# Altium schematic symbol library 1N5819-E3_54.SchLib: 1 symbol
Pins are listed as number, name and electrical type; pins without a type are passive.

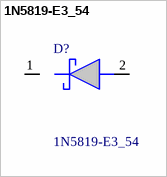
[diagram p0: symbol 1N5819-E3_54]

## 1N5819-E3_54
designator D?
Vishay 1N5819-E3/54 Schottky Diode, 40V 1A, 2-Pin DO-204AL; Mouser Part Number: 625-1N5819-E3; Mouser Price/Stock: https://www.mouser.co.uk/ProductDetail/Vishay-General-Semiconductor/1N5819-E3-54?qs=7w0fSgRKp93guDuu%252B5hJ0Q%3D%3D; Manufacturer_Name: Vishay; Manufacturer_Part_Number: 1N5819-E3/54; Datasheet Link: https://www.vishay.com/docs/88525/1n5817.pdf
footprint DIOAD1405W86L465D235
pins: 1 K, 2 A